# Altium footprint library SX1262.PcbLib: 1 footprints
Each footprint in its own frame and in the unit in brackets; x right, y up, seen from the top. Pads: shape width x height; smd on the part's side, far side on the other; paste and mask are expansions set on the pad; w line width, h text height; cw(c..) or ccw(c..) is an arc to the next point about the centre after c.
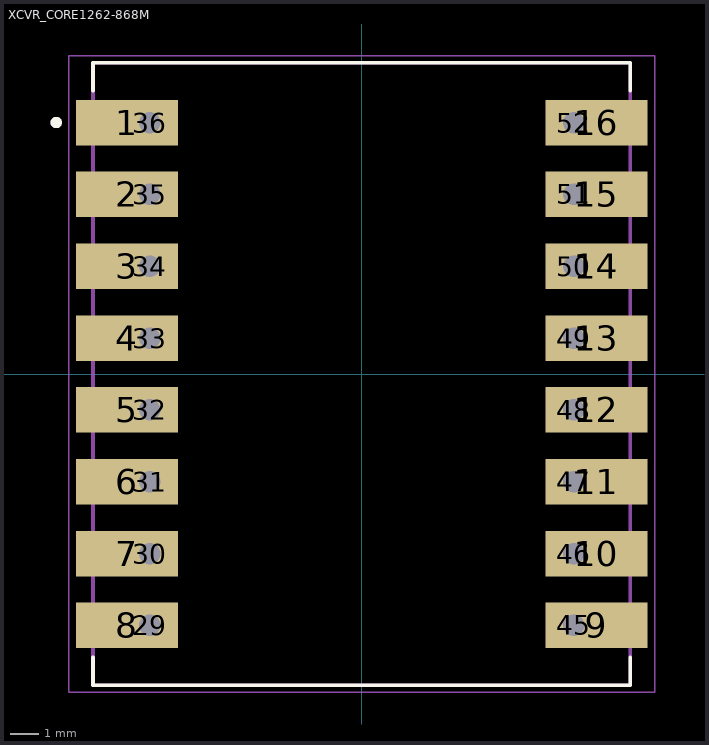
[diagram p0: the footprint, top view; thin cyan lines are the x and y axes]

## XCVR_CORE1262-868M [mil]
height 128.74
pads (32):
  rect 142.13x63.39 smd mask+1.97: 1(-326.77,350) 2(-326.77,250) 3(-326.77,150) 4(-326.77,50) 5(-326.77,-50) 6(-326.77,-150) 7(-326.77,-250) 8(-326.77,-350) 9(326.77,-350) 10(326.77,-250) 11(326.77,-150) 12(326.77,-50) 13(326.77,50) 14(326.77,150) 15(326.77,250) 16(326.77,350)
  round 60 hole 30: 29(-295,-350) 30(-295,-250) 31(-295,-150) 32(-295,-50) 33(-295,50) 34(-295,150) 35(-295,250) 36(-295,350) 45(295,-350) 46(295,-250) 47(295,-150) 48(295,-50) 49(295,50) 50(295,150) 51(295,250) 52(295,350)
Top Overlay:
  circle w7.87: c-425.2,350 r3.94
  lines w5: -374.02,-394.29 -374.02,-433.07 374.02,-433.07 374.02,-394.29 ; -374.02,394.29 -374.02,433.07 374.02,433.07 374.02,394.29
Mechanical 13:
  circle w7.87: c-425.2,350 r3.94
  lines w5: -374.02,-433.07 -374.02,433.07 374.02,433.07 374.02,-433.07 -374.02,-433.07
Mechanical 15:
  lines w1.97: -407.68,-442.91 407.68,-442.91 407.68,442.91 -407.68,442.91 -407.68,-442.91
3D body "step_temp.STEP": height 128.74, standoff 0, extent -374.02,-433.07 374.02,433.07